# Altium integrated library AD620.IntLib: 1 symbol
Pins are listed as number, name and electrical type; pins without a type are passive.

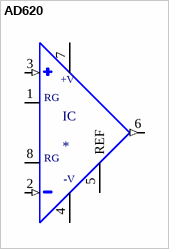
[diagram p0: symbol AD620]

## AD620
designator IC
Instrumentation Amplifier 1 Circuit 8-SOIC; MP: AD620; MF: Analog Devices; Availability: Unavailable; Price: None; Package: TSSOP-8 Analog Devices; Value: *; SnapEDA_Link: https://www.snapeda.com/parts/AD620/Analog%20Devices%20Inc./view-part/559692/?ref=snap
footprint SO8
pins: 1 RG@1, 2 NEG (in), 3 POS (in), 4 -V (power), 5 REF, 6 OUT (out), 7 +V (power), 8 RG@2
text: RG